# EAGLE library part 69 (library display-lcd-lxd)
8 Numerical Digit, .50" (12.70) Direct Drive Display Additional Descriptors: none
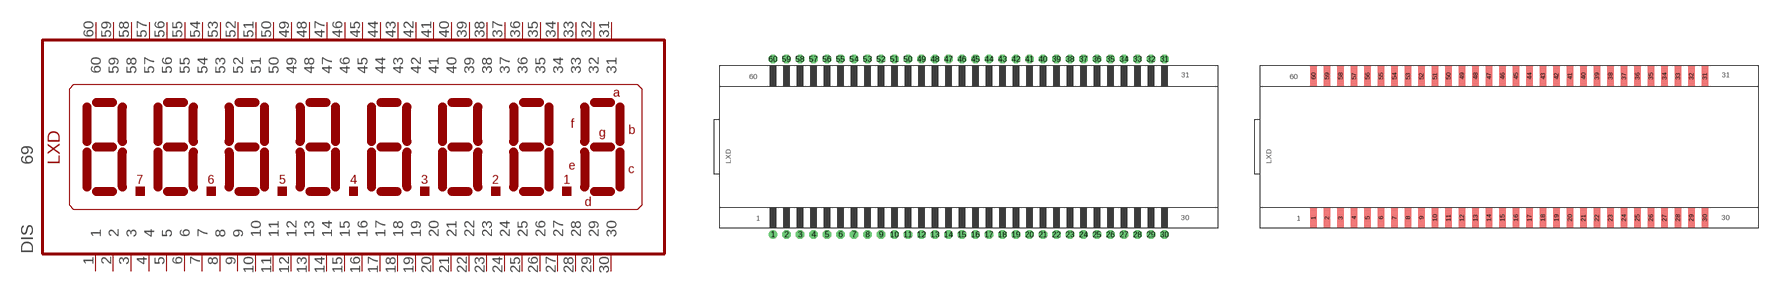
[diagram p33: symbol with the pads of 69-D; footprints 69-D, 69-E]

Designator prefix DIS

## 69DIP  [69-D]
1  1  pas
2  2  pas
3  3  pas
4  4  pas
5  5  pas
6  6  pas
7  7  pas
8  8  pas
9  9  pas
10  10  pas
11  11  pas
12  12  pas
13  13  pas
14  14  pas
15  15  pas
16  16  pas
17  17  pas
18  18  pas
19  19  pas
20  20  pas
21  21  pas
22  22  pas
23  23  pas
24  24  pas
25  25  pas
26  26  pas
27  27  pas
28  28  pas
29  29  pas
30  30  pas
31  31  pas
32  32  pas
33  33  pas
34  34  pas
35  35  pas
36  36  pas
37  37  pas
38  38  pas
39  39  pas
40  40  pas
41  41  pas
42  42  pas
43  43  pas
44  44  pas
45  45  pas
46  46  pas
47  47  pas
48  48  pas
49  49  pas
50  50  pas
51  51  pas
52  52  pas
53  53  pas
54  54  pas
55  55  pas
56  56  pas
57  57  pas
58  58  pas
59  59  pas
60  60  pas

## 69SMD  [69-E]
Pads as for 69-D

## Footprint 69-D (pad centres in mm)
Glass Size: 3.695" x 1.20" &nbsp &nbsp &nbsp &nbsp &nbsp &nbsp &nbsp &nbsp &nbsp (93.85 x 30.48)
drill 0.813 pad 1.6: 1 -36.83,-16.51
drill 0.813 pad 1.6 octagon: 2 -34.29,-16.51; 3 -31.75,-16.51; 4 -29.21,-16.51; 5 -26.67,-16.51; 6 -24.13,-16.51; 7 -21.59,-16.51; 8 -19.05,-16.51; 9 -16.51,-16.51; 10 -13.97,-16.51; 11 -11.43,-16.51; 12 -8.89,-16.51; 13 -6.35,-16.51; 14 -3.81,-16.51; 15 -1.27,-16.51; 16 1.27,-16.51; 17 3.81,-16.51; 18 6.35,-16.51; 19 8.89,-16.51; 20 11.43,-16.51; 21 13.97,-16.51; 22 16.51,-16.51; 23 19.05,-16.51; 24 21.59,-16.51; 25 24.13,-16.51; 26 26.67,-16.51; 27 29.21,-16.51; 28 31.75,-16.51; 29 34.29,-16.51; 30 36.83,-16.51; 31 36.83,16.51; 32 34.29,16.51; 33 31.75,16.51; 34 29.21,16.51; 35 26.67,16.51; 36 24.13,16.51; 37 21.59,16.51; 38 19.05,16.51; 39 16.51,16.51; 40 13.97,16.51; 41 11.43,16.51; 42 8.89,16.51; 43 6.35,16.51; 44 3.81,16.51; 45 1.27,16.51; 46 -1.27,16.51; 47 -3.81,16.51; 48 -6.35,16.51; 49 -8.89,16.51; 50 -11.43,16.51; 51 -13.97,16.51; 52 -16.51,16.51; 53 -19.05,16.51; 54 -21.59,16.51; 55 -24.13,16.51; 56 -26.67,16.51; 57 -29.21,16.51; 58 -31.75,16.51; 59 -34.29,16.51; 60 -36.83,16.51

## Footprint 69-E (pad centres in mm)
Glass Size: 3.695" x 1.20" &nbsp &nbsp &nbsp &nbsp &nbsp &nbsp &nbsp &nbsp &nbsp (93.85 x 30.48)
smd 1.27 x 3.81: 1 -36.83,-13.335; 2 -34.29,-13.335; 3 -31.75,-13.335; 4 -29.21,-13.335; 5 -26.67,-13.335; 6 -24.13,-13.335; 7 -21.59,-13.335; 8 -19.05,-13.335; 9 -16.51,-13.335; 10 -13.97,-13.335; 11 -11.43,-13.335; 12 -8.89,-13.335; 13 -6.35,-13.335; 14 -3.81,-13.335; 15 -1.27,-13.335; 16 1.27,-13.335; 17 3.81,-13.335; 18 6.35,-13.335; 19 8.89,-13.335; 20 11.43,-13.335; 21 13.97,-13.335; 22 16.51,-13.335; 23 19.05,-13.335; 24 21.59,-13.335; 25 24.13,-13.335; 26 26.67,-13.335; 27 29.21,-13.335; 28 31.75,-13.335; 29 34.29,-13.335; 30 36.83,-13.335; 31 36.83,13.335; 32 34.29,13.335; 33 31.75,13.335; 34 29.21,13.335; 35 26.67,13.335; 36 24.13,13.335; 37 21.59,13.335; 38 19.05,13.335; 39 16.51,13.335; 40 13.97,13.335; 41 11.43,13.335; 42 8.89,13.335; 43 6.35,13.335; 44 3.81,13.335; 45 1.27,13.335; 46 -1.27,13.335; 47 -3.81,13.335; 48 -6.35,13.335; 49 -8.89,13.335; 50 -11.43,13.335; 51 -13.97,13.335; 52 -16.51,13.335; 53 -19.05,13.335; 54 -21.59,13.335; 55 -24.13,13.335; 56 -26.67,13.335; 57 -29.21,13.335; 58 -31.75,13.335; 59 -34.29,13.335; 60 -36.83,13.335